# Altium footprint library Cap_Tantalum_Pcb.PcbLib: 1 footprints
Each footprint in its own frame and in the unit in brackets; x right, y up, seen from the top. Pads: shape width x height; smd on the part's side, far side on the other; paste and mask are expansions set on the pad; w line width, h text height; cw(c..) or ccw(c..) is an arc to the next point about the centre after c.
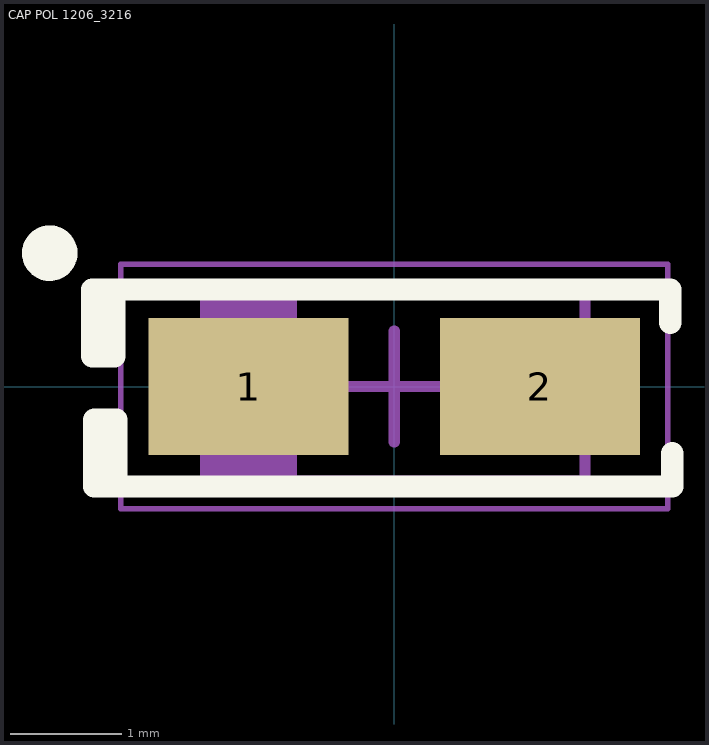
[diagram p0: the footprint, top view; thin cyan lines are the x and y axes]

## CAP POL 1206_3216 [mm] "Molded Capacitor, 2-Leads, Body 3.20x1.6mm, IPC Medium Density"
height 1.7
pads (2):
  rect 1.8x1.23 smd: 1(-1.31,0) 2(1.31,0)
Top Overlay:
  circle w0.25: c-3.1,1.2 r0.125
  rectangle: -2.717,0.273 -2.567,0.873
  rectangle: -2.7,-0.9 -2.55,-0.3
  lines w0.2: -2.517,0.873 -2.517,0.273 -2.717,0.273 -2.717,0.873 2.483,0.873 2.483,0.573 ; -2.5,-0.9 -2.5,-0.3 -2.7,-0.3 -2.7,-0.9 2.5,-0.9 2.5,-0.6
Mechanical 13:
  rectangle: -1.715,-0.85 -0.875,0.85
  lines w0.1: -1.7,-0.85 -1.7,0.85 1.715,0.85 1.715,-0.85 -1.7,-0.85
  text ".Designator" at -2.453,0.703 h1.5
Mechanical 15:
  lines w0.05: -2.46,-1.1 2.46,-1.1 2.46,1.1 -2.46,1.1 -2.46,-1.1
  lines w0.1: -0.5,0 0.5,0 ; 0,-0.5 0,0.5
3D body "CAP TANT - 1206 - 1.7MM.step": height 1.7, standoff 0, extent -1.715,-0.85 1.715,0.85